# Altium footprint library QFN-12(2.0X2.0)-T07X07.PcbLib: 1 footprints
Each footprint in its own frame and in the unit in brackets; x right, y up, seen from the top. Pads: shape width x height; smd on the part's side, far side on the other; paste and mask are expansions set on the pad; w line width, h text height; cw(c..) or ccw(c..) is an arc to the next point about the centre after c.
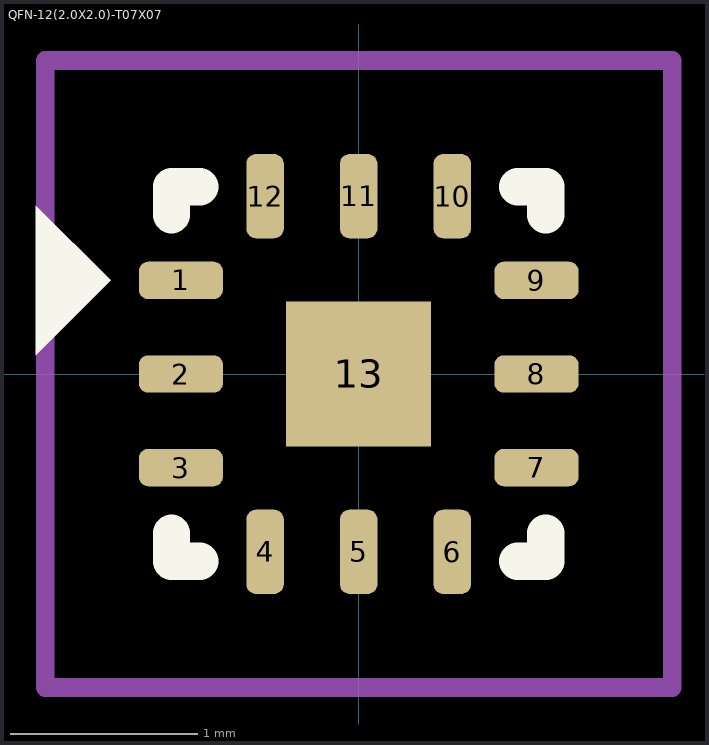
[diagram p0: the footprint, top view; thin cyan lines are the x and y axes]

## QFN-12(2.0X2.0)-T07X07 [mm]
pads (13):
  rrect50% 0.45x0.2 smd: 1(-0.95,0.5) 2(-0.95,0) 3(-0.95,-0.5) 7(0.95,-0.5) 8(0.95,0) 9(0.95,0.5)
  rrect50% 0.2x0.45 smd: 4(-0.5,-0.95) 5(0,-0.95) 6(0.5,-0.95) 10(0.5,0.95) 11(0,0.95) 12(-0.5,0.95)
  rect 0.775x0.775 smd: 13(0,0)
Top Overlay:
  region: -1.725,0.1 -1.725,0.9 -1.325,0.5
  lines w0.2: -1,-0.85 -1,-1 -0.85,-1 ; -1,0.85 -1,1 -0.85,1 ; 0.85,-1 1,-1 1,-0.85 ; 0.85,1 1,1 1,0.85
Top Courtyard:
  lines w0.1: -1.675,-1.675 -1.675,1.675 1.675,1.675 1.675,-1.675 -1.675,-1.675
3D body: height 0.5, standoff 0.05, extent -1,-1 1,1